# EAGLE library part LT_LTM8031 (library Gyro-Test_2)
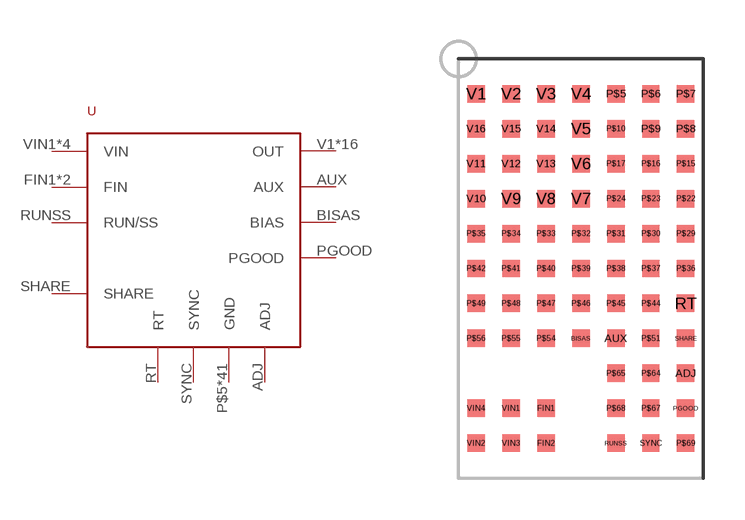
[diagram p3: symbol with the pads of LT_LGA-71; footprint LT_LGA-71]

Designator prefix U

## LT_LTM8031  [LT_LGA-71]
ADJ  ADJ
AUX  AUX
BISAS  BIAS
FIN1  FIN
FIN2  FIN
P$5  GND
P$6  GND
P$7  GND
P$8  GND
P$9  GND
P$10  GND
P$15  GND
P$16  GND
P$17  GND
P$22  GND
P$23  GND
P$24  GND
P$29  GND
P$30  GND
P$31  GND
P$32  GND
P$33  GND
P$34  GND
P$35  GND
P$36  GND
P$37  GND
P$38  GND
P$39  GND
P$40  GND
P$41  GND
P$42  GND
P$44  GND
P$45  GND
P$46  GND
P$47  GND
P$48  GND
P$49  GND
P$51  GND
P$54  GND
P$55  GND
P$56  GND
P$64  GND
P$65  GND
P$67  GND
P$68  GND
P$69  GND
PGOOD  PGOOD
RT  RT
RUNSS  RUN/SS
SHARE  SHARE
SYNC  SYNC
V1  OUT
V2  OUT
V3  OUT
V4  OUT
V5  OUT
V6  OUT
V7  OUT
V8  OUT
V9  OUT
V10  OUT
V11  OUT
V12  OUT
V13  OUT
V14  OUT
V15  OUT
V16  OUT
VIN1  VIN
VIN2  VIN
VIN3  VIN
VIN4  VIN

## Footprint LT_LGA-71 (pad centres in mm)
smd 0.635 x 0.635: ADJ 0,-10.16; AUX -2.54,-8.89; BISAS -3.81,-8.89; FIN1 -5.08,-11.43; FIN2 -5.08,-12.7; P$5 -2.54,0; P$6 -1.27,0; P$7 0,0; P$8 0,-1.27; P$9 -1.27,-1.27; P$10 -2.54,-1.27; P$15 0,-2.54; P$16 -1.27,-2.54; P$17 -2.54,-2.54; P$22 0,-3.81; P$23 -1.27,-3.81; P$24 -2.54,-3.81; P$29 0,-5.08; P$30 -1.27,-5.08; P$31 -2.54,-5.08; P$32 -3.81,-5.08; P$33 -5.08,-5.08; P$34 -6.35,-5.08; P$35 -7.62,-5.08; P$36 0,-6.35; P$37 -1.27,-6.35; P$38 -2.54,-6.35; P$39 -3.81,-6.35; P$40 -5.08,-6.35; P$41 -6.35,-6.35; P$42 -7.62,-6.35; P$44 -1.27,-7.62; P$45 -2.54,-7.62; P$46 -3.81,-7.62; P$47 -5.08,-7.62; P$48 -6.35,-7.62; P$49 -7.62,-7.62; P$51 -1.27,-8.89; P$54 -5.08,-8.89; P$55 -6.35,-8.89; P$56 -7.62,-8.89; P$64 -1.27,-10.16; P$65 -2.54,-10.16; P$67 -1.27,-11.43; P$68 -2.54,-11.43; P$69 0,-12.7; PGOOD 0,-11.43; RT 0,-7.62; RUNSS -2.54,-12.7; SHARE 0,-8.89; SYNC -1.27,-12.7; V1 -7.62,0; V2 -6.35,0; V3 -5.08,0; V4 -3.81,0; V5 -3.81,-1.27; V6 -3.81,-2.54; V7 -3.81,-3.81; V8 -5.08,-3.81; V9 -6.35,-3.81; V10 -7.62,-3.81; V11 -7.62,-2.54; V12 -6.35,-2.54; V13 -5.08,-2.54; V14 -5.08,-1.27; V15 -6.35,-1.27; V16 -7.62,-1.27; VIN1 -6.35,-11.43; VIN2 -7.62,-12.7; VIN3 -6.35,-12.7; VIN4 -7.62,-11.43